# Altium footprint library TB6560AHQ_8.PcbLib: 1 footprints
Each footprint in its own frame and in the unit in brackets; x right, y up, seen from the top. Pads: shape width x height; smd on the part's side, far side on the other; paste and mask are expansions set on the pad; w line width, h text height; cw(c..) or ccw(c..) is an arc to the next point about the centre after c.
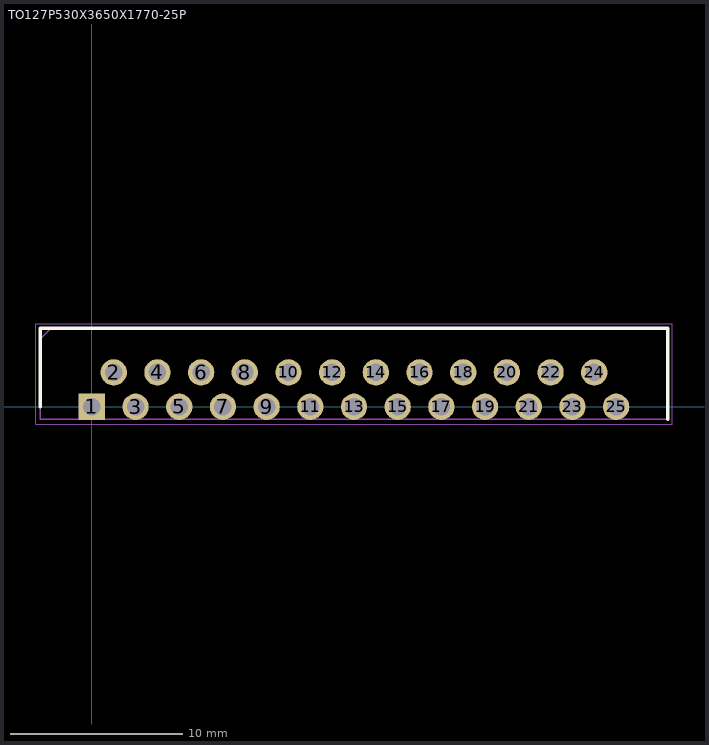
[diagram p0: the footprint, top view; thin cyan lines are the x and y axes]

## TO127P530X3650X1770-25P [mm]
pads (25):
  rect 1.53x1.53 / inner round 1.53 / far side rect 1.53x1.53 hole 1.02: 1(0,0)
  round 1.53 hole 1.02: 2(1.27,2) 3(2.54,0) 4(3.81,2) 5(5.08,0) 6(6.35,2) 7(7.62,0) 8(8.89,2) 9(10.16,0) 10(11.43,2) 11(12.7,0) 12(13.97,2) 13(15.24,0) 14(16.51,2) 15(17.78,0) 16(19.05,2) 17(20.32,0) 18(21.59,2) 19(22.86,0) 20(24.13,2) 21(25.4,0) 22(26.67,2) 23(27.94,0) 24(29.21,2) 25(30.48,0)
Top Overlay:
  lines w0.2: -3.01,0 -3.01,4.575 33.49,4.575 33.49,-0.725
Mechanical 15:
  lines w0.1: -3.01,3.94 -2.375,4.575 ; -3.01,-0.725 -3.01,4.575 33.49,4.575 33.49,-0.725 -3.01,-0.725
Mechanical 20:
  lines w0.05: -3.26,-1.015 -3.26,4.825 33.74,4.825 33.74,-1.015 -3.26,-1.015
3D body "TB6560AHQ,8.stp": height 16.53, standoff -4.18, extent -2.76,-0.428 33.24,4.572